# Altium integrated library MAX8815.IntLib: 1 symbol
Pins are listed as number, name and electrical type; pins without a type are passive.

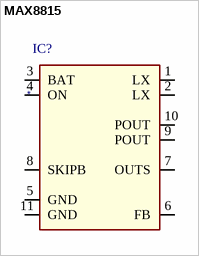
[diagram p0: symbol MAX8815]

## MAX8815
designator IC?
ID: MAX8815AETB+T; PDF: http://datasheets.maximintegrated.com/en/ds/MAX8815A.pdf; PRICE: 2.92000; BUY_LINK: http://www.digikey.com/product-detail/en/MAX8815AETB%2BT/MAX8815AETB%2BTCT-ND/2699431
footprint TDFN10
pins: 1 LX, 2 LX, 3 BAT, 4 ON, 5 GND, 6 FB, 7 OUTS, 8 SKIPB, 9 POUT, 10 POUT, 11 GND